# Altium footprint library EVQ-P7J01P.PcbLib: 1 footprints
Each footprint in its own frame and in the unit in brackets; x right, y up, seen from the top. Pads: shape width x height; smd on the part's side, far side on the other; paste and mask are expansions set on the pad; w line width, h text height; cw(c..) or ccw(c..) is an arc to the next point about the centre after c.
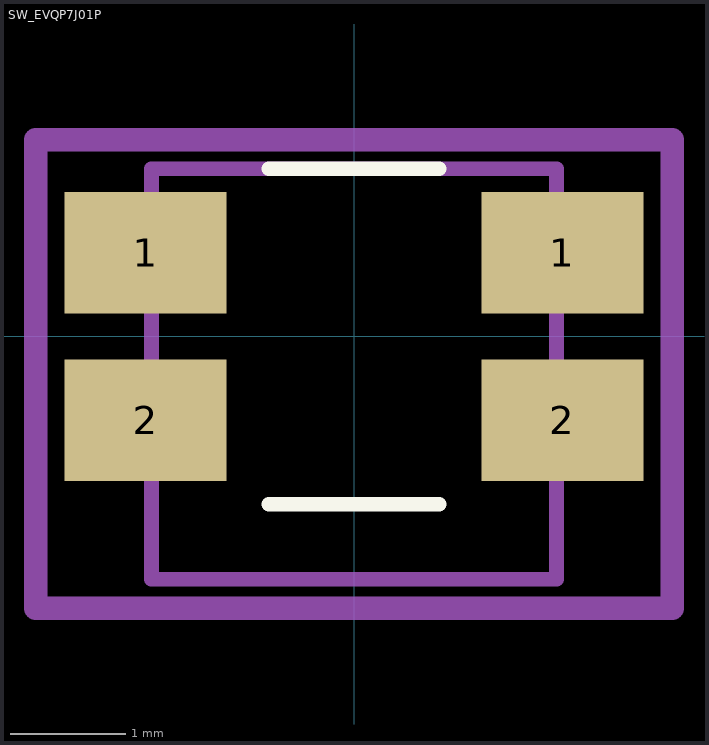
[diagram p0: the footprint, top view; thin cyan lines are the x and y axes]

## SW_EVQP7J01P [mm]
pads (4):
  rect 1.4x1.05 smd: 1(-1.8,0.725) 1(1.8,0.725) 2(-1.8,-0.725) 2(1.8,-0.725)
Top Overlay:
  lines w0.127: -0.734,-1.45 0.734,-1.45 ; -0.734,1.45 0.734,1.45
Mechanical 10 (Mech10):
  lines w0.2: -2.75,-2.35 2.75,-2.35 2.75,1.7 -2.75,1.7 -2.75,-2.35
  text "'.Designator'" at 0,0 h0.8
3D Model:
  lines w0.127: -1.75,-2.1 -1.75,1.45 ; -1.75,-2.1 1.75,-2.1 ; -1.75,-2.1 -1.75,1.45 ; -1.75,-2.1 1.75,-2.1 ; -1.75,1.45 1.75,1.45 ; -1.75,1.45 1.75,1.45 ; 1.75,-2.1 1.75,1.45 ; 1.75,-2.1 1.75,1.45
Border:
  lines w0.05: -2.75,-2.35 -2.75,1.7 2.75,1.7 2.75,-2.35 -2.75,-2.35
3D body "EVQP7JA01P.STEP": height 1.35, standoff 0, extent -2.35,-2.1 2.35,1.45